# Altium footprint library SOIC14P127_865X600X175L70X42N.PcbLib: 1 footprints
Each footprint in its own frame and in the unit in brackets; x right, y up, seen from the top. Pads: shape width x height; smd on the part's side, far side on the other; paste and mask are expansions set on the pad; w line width, h text height; cw(c..) or ccw(c..) is an arc to the next point about the centre after c.
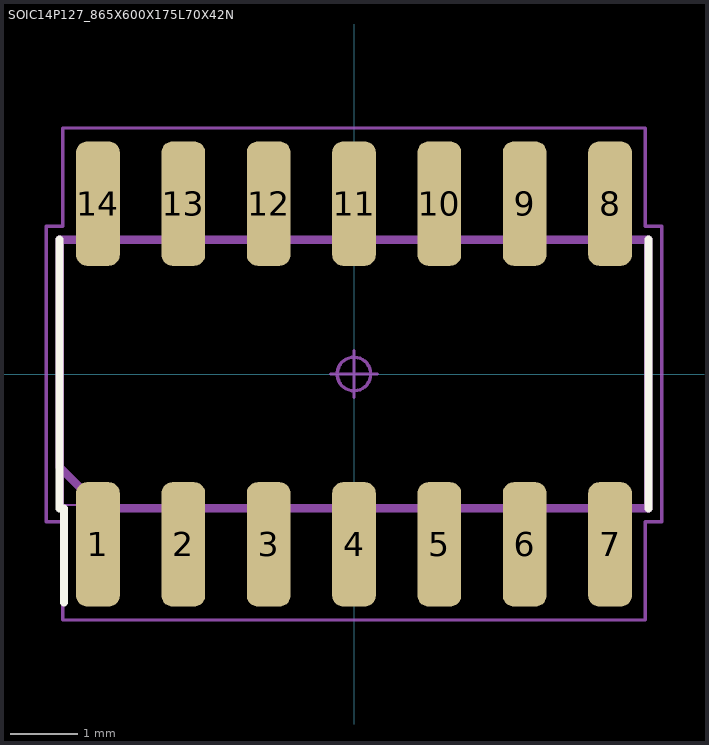
[diagram p0: the footprint, top view; thin cyan lines are the x and y axes]

## SOIC14P127_865X600X175L70X42N [mm] "Small Outline IC (SOIC), 1.27 mm pitch; 14 pin, 8.65 mm L X 3.90 mm W X 1.75 mm H body"
height 1.75
pads (14):
  rrect49% 0.65x1.85 smd: 1(-3.81,-2.535) 2(-2.54,-2.535) 3(-1.27,-2.535) 4(0,-2.535) 5(1.27,-2.535) 6(2.54,-2.535) 7(3.81,-2.535) 8(3.81,2.535) 9(2.54,2.535) 10(1.27,2.535) 11(0,2.535) 12(-1.27,2.535) 13(-2.54,2.535) 14(-3.81,2.535)
Top Overlay:
  lines w0.12: -4.38,-2 -4.38,2 ; -4.315,-3.4 -4.315,-2 ; 4.38,-2 4.38,2
Mechanical 3:
  lines w0.12: -4.38,-1.386 -4.38,2 4.38,2 4.38,-2 -3.766,-2 -4.38,-1.386
Mechanical 5:
  lines w0.025: -4.325,-1.95 -4.325,1.95 4.325,1.95 4.325,-1.95 -4.325,-1.95 ; -4.022,-3 -3.598,-3 -3.598,-2.3 -4.022,-2.3 -4.022,-3 ; -4.022,2.3 -3.598,2.3 -3.598,3 -4.022,3 -4.022,2.3 ; -2.752,-3 -2.328,-3 -2.328,-2.3 -2.752,-2.3 -2.752,-3 ; -2.752,2.3 -2.328,2.3 -2.328,3 -2.752,3 -2.752,2.3 ; -1.482,-3 -1.058,-3 -1.058,-2.3 -1.482,-2.3 -1.482,-3 ; -1.482,2.3 -1.058,2.3 -1.058,3 -1.482,3 -1.482,2.3 ; -0.212,-3 0.212,-3 0.212,-2.3 -0.212,-2.3 -0.212,-3 ; -0.212,2.3 0.212,2.3 0.212,3 -0.212,3 -0.212,2.3 ; 1.058,-3 1.482,-3 1.482,-2.3 1.058,-2.3 1.058,-3 ; 1.058,2.3 1.482,2.3 1.482,3 1.058,3 1.058,2.3 ; 2.328,-3 2.752,-3 2.752,-2.3 2.328,-2.3 2.328,-3 ; 2.328,2.3 2.752,2.3 2.752,3 2.328,3 2.328,2.3 ; 3.598,-3 4.022,-3 4.022,-2.3 3.598,-2.3 3.598,-3 ; 3.598,2.3 4.022,2.3 4.022,3 3.598,3 3.598,2.3
Mechanical 7:
  circle w0.05: c0,0 r0.25
  lines w0.05: -0.35,0 0.35,0 ; 0,-0.35 0,0.35 ; -4.58,-2.2 -4.58,2.2 -4.335,2.2 -4.335,3.66 4.335,3.66 4.335,2.2 4.58,2.2 4.58,-2.2 4.335,-2.2 4.335,-3.66 -4.335,-3.66 -4.335,-2.2 -4.58,-2.2
Mechanical 9:
  text "'.Designator'" at -5.461,-0.33 h1
3D body "SOIC14P127_865X600X175L70X42.STEP": height 1.75, standoff 0, extent -4.325,-3 4.325,3
3D body: height 0.25, standoff 0, extent -4.572,-3.658 4.572,3.658
3D body: height 1.04, standoff 0, extent -4.58,-3.66 4.58,3.66